# Altium schematic symbol library HEADER_2x7.Schlib: 1 symbol
Pins are listed as number, name and electrical type; pins without a type are passive.

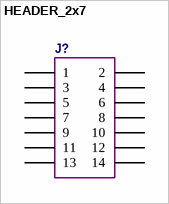
[diagram p0: symbol HEADER_2x7]

## HEADER_2x7
designator J?  (value not drawn)
HEADER 2x7 14 circtuits
pins: 1, 2, 3, 4, 5, 6, 7, 8, 9, 10, 11, 12, 13, 14